# EAGLE library part SPIFLASH (library apbteam_spiflash)
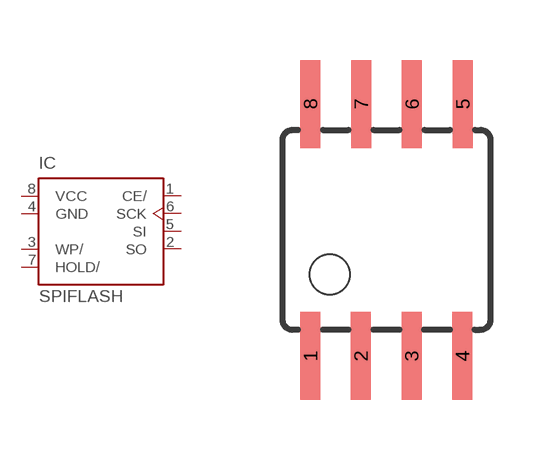
[diagram p0: symbol with the pads of SOIC8; footprint SOIC8]

Designator prefix IC

## SPIFLASH  [SOIC8]
1  CE/  in
2  SO
3  WP/  in
4  GND  pwr
5  SI  in
6  SCK  in
7  HOLD/  in
8  VCC  pwr

## Footprint SOIC8 (pad centres in mm)
Wide Plastic Gull Wing Small Outline Package
smd 0.5 x 2.2: 1 -1.905,-3.154; 2 -0.645,-3.154; 3 0.625,-3.154; 4 1.895,-3.154; 5 1.905,3.154; 6 0.635,3.154; 7 -0.635,3.154; 8 -1.905,3.154